# EAGLE library part 74LVC1T45 (library nonolith)
74LVC1T45 single-bit-wide bidirectional buffer
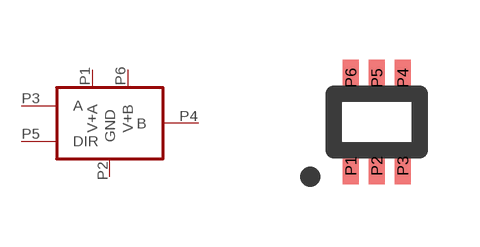
[diagram p38: symbol with the pads of SC-70; footprint SC-70]

Designator prefix -

## 74LVC1T45  [SC-70]
P1  V+A
P2  GND
P3  A
P4  B
P5  DIR
P6  V+B

## Footprint SC-70 (pad centres in mm)
tiny sot23
smd 0.4 x 0.9: P1 -0.65,-1.1; P2 0,-1.1; P3 0.65,-1.1; P4 0.65,1.1; P5 0,1.1; P6 -0.65,1.1